# EAGLE library part OPA836DBV (library op-amp)
OP-AMP Very Low-Power, Rail-to-Rail Out, Negative Rail In, VFB Op Amp
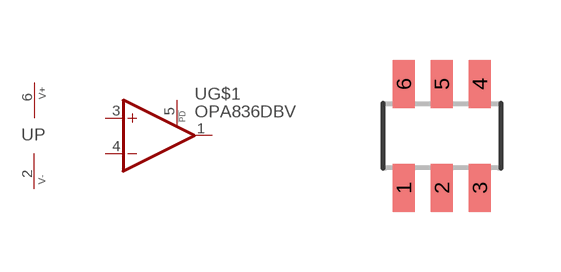
[diagram p47: symbol with the pads of SOT23-6; footprint SOT23-6]

Designator prefix U; gates P=PWR_V+- G$1=OPAMP_PD

## OPA836DBV (P1I: o)  [SOT23-6]
1  G$1:OUT  out
2  P:V-  pwr
3  G$1:+IN  in
4  G$1:-IN  in
5  G$1:PD  pas
6  P:V+  pwr

## Footprint SOT23-6 (pad centres in mm)
SOT-23 - DBV 0.95 mm pitch
smd 0.55 x 1.2: 1 -0.95,-1.3; 2 0,-1.3; 3 0.95,-1.3; 4 0.95,1.3; 5 0,1.3; 6 -0.95,1.3